# Altium integrated library Resistors.IntLib: 4954 symbols (part 10 of 32)
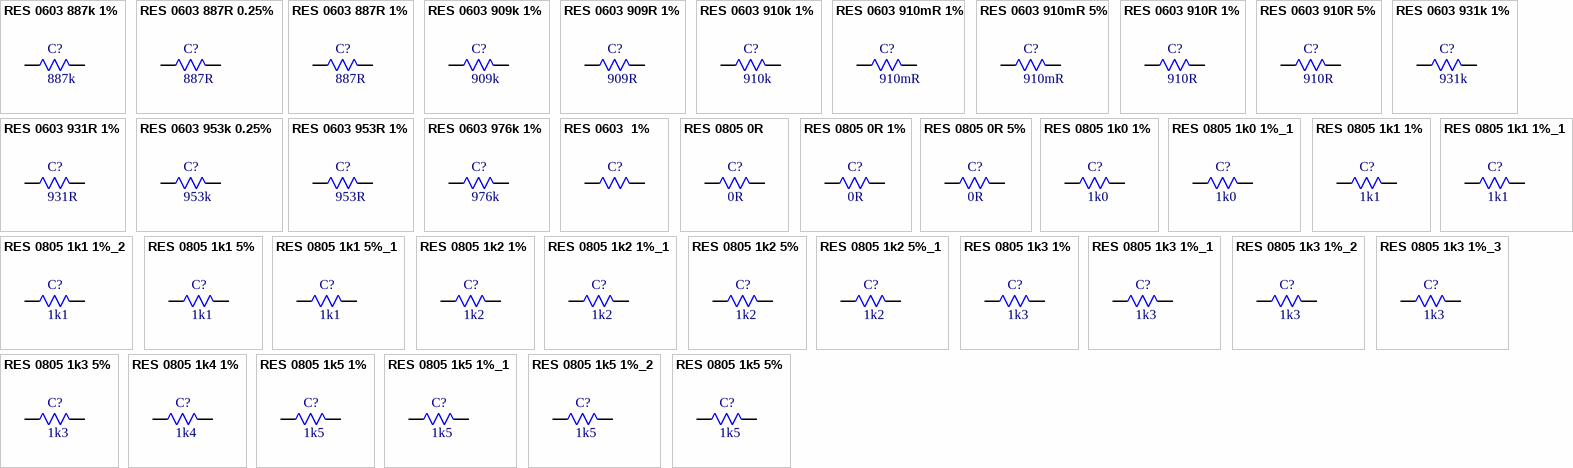
[diagram p132: symbols RES 0603 887k 1% to RES 0805 1k5 5%]

## RES 0805 1k5 1%
designator C?, comment 1k5
1.5kR 1% 125mW 0805 Thick Film Resistor; Manufacturer: FOJAN; Manufacturer Part Number: FRC0805F1501TS; Voltage Rating: 150V; Supplier: LCSC; Supplier Part Number: C2907216; Resistance: 1k5; Tolerance: 1%; Power: 125mW
footprint RES SMD 0805
pins: 1, 2

## RES 0805 1k5 1%_1
designator C?, comment 1k5
1.54kR 1% 125mW 0805 Thick Film Resistor; Manufacturer: FOJAN; Manufacturer Part Number: FRC0805F1541TS; Voltage Rating: 150V; Supplier: LCSC; Supplier Part Number: C2933326; Resistance: 1k5; Tolerance: 1%; Power: 125mW
footprint RES SMD 0805
pins: 1, 2

## RES 0805 1k5 1%_2
designator C?, comment 1k5
125mW 1.5kR Thick Film Resistor 1% 100ppm/â„ƒ 0805 Chip Resistor - Surface Mount RoHS; Manufacturer: FOJAN; Manufacturer Part Number: FRQ0805F1501TS; Supplier: LCSC; Supplier Part Number: C7468486; Resistance: 1k5; Tolerance: 1%; Power: 125mW
footprint RES SMD 0805
pins: 1, 2

## RES 0805 1k5 5%
designator C?, comment 1k5
1.5kR 5% 125mW 0805 Thick Film Resistor; Manufacturer: FOJAN; Manufacturer Part Number: FRC0805J152 TS; Voltage Rating: 150V; Supplier: LCSC; Supplier Part Number: C2907290; Resistance: 1k5; Tolerance: 5%; Power: 125mW
footprint RES SMD 0805
pins: 1, 2

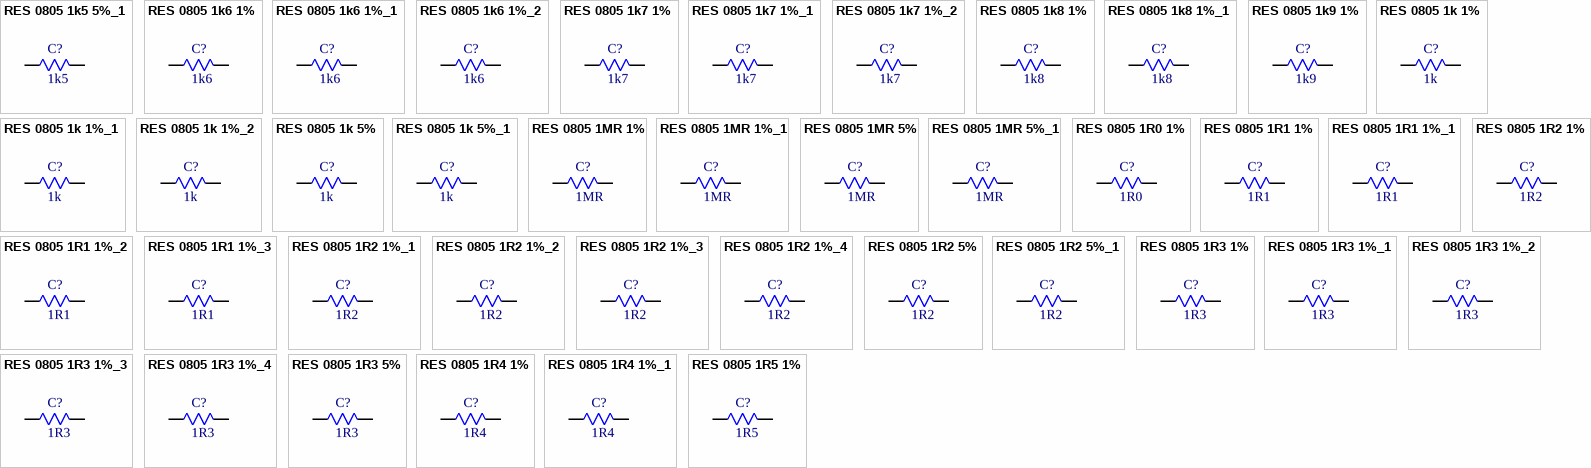
[diagram p36: symbols RES 0805 1k5 5%_1 to RES 0805 1R5 1%]

## RES 0805 1k5 5%_1
designator C?, comment 1k5
125mW 1.5kR 150V Thick Film Resistor 100ppm/â„ƒ 5% 0805 Chip Resistor - Surface Mount RoHS; Manufacturer: FOJAN; Manufacturer Part Number: FRR0805J152 TS; Supplier: LCSC; Supplier Part Number: C49196829; Resistance: 1k5; Tolerance: 5%; Voltage Rating: 150V; Power: 125mW
footprint RES SMD 0805
pins: 1, 2

## RES 0805 1k6 1%
designator C?, comment 1k6
1.6kR 1% 125mW 0805 Thick Film Resistor; Manufacturer: FOJAN; Manufacturer Part Number: FRC0805F1601TS; Voltage Rating: 150V; Supplier: LCSC; Supplier Part Number: C2933328; Resistance: 1k6; Tolerance: 1%; Power: 125mW
footprint RES SMD 0805
pins: 1, 2

## RES 0805 1k6 1%_1
designator C?, comment 1k6
1.62kR 1% 125mW 0805 Thick Film Resistor; Manufacturer: FOJAN; Manufacturer Part Number: FRC0805F1621TS; Voltage Rating: 150V; Supplier: LCSC; Supplier Part Number: C2933331; Resistance: 1k6; Tolerance: 1%; Power: 125mW
footprint RES SMD 0805
pins: 1, 2

## RES 0805 1k6 1%_2
designator C?, comment 1k6
1.65kR 1% 125mW 0805 Thick Film Resistor; Manufacturer: FOJAN; Manufacturer Part Number: FRC0805F1651TS; Voltage Rating: 150V; Supplier: LCSC; Supplier Part Number: C2933334; Resistance: 1k6; Tolerance: 1%; Power: 125mW
footprint RES SMD 0805
pins: 1, 2

## RES 0805 1k7 1%
designator C?, comment 1k7
125mW 1.74kR Thick Film Resistor 1% 100ppm/â„ƒ 0805 Chip Resistor - Surface Mount RoHS; Manufacturer: FOJAN; Manufacturer Part Number: FRQ0805F1741TS; Supplier: LCSC; Supplier Part Number: C7471243; Resistance: 1k7; Tolerance: 1%; Power: 125mW
footprint RES SMD 0805
pins: 1, 2

## RES 0805 1k7 1%_1
designator C?, comment 1k7
1.78kR 1% 125mW 0805 Thick Film Resistor; Manufacturer: FOJAN; Manufacturer Part Number: FRC0805F1781TS; Voltage Rating: 150V; Supplier: LCSC; Supplier Part Number: C2933341; Resistance: 1k7; Tolerance: 1%; Power: 125mW
footprint RES SMD 0805
pins: 1, 2

## RES 0805 1k7 1%_2
designator C?, comment 1k7
1.74kR 1% 125mW 0805 Thick Film Resistor; Manufacturer: FOJAN; Manufacturer Part Number: FRC0805F1741TS; Voltage Rating: 150V; Supplier: LCSC; Supplier Part Number: C2960893; Resistance: 1k7; Tolerance: 1%; Power: 125mW
footprint RES SMD 0805
pins: 1, 2

## RES 0805 1k8 1%
designator C?, comment 1k8
1.8kR 1% 125mW 0805 Thick Film Resistor; Manufacturer: FOJAN; Manufacturer Part Number: FRC0805F1801TS; Voltage Rating: 150V; Supplier: LCSC; Supplier Part Number: C2933345; Resistance: 1k8; Tolerance: 1%; Power: 125mW
footprint RES SMD 0805
pins: 1, 2

## RES 0805 1k8 1%_1
designator C?, comment 1k8
1.87kR 1% 125mW 0805 Thick Film Resistor; Manufacturer: FOJAN; Manufacturer Part Number: FRC0805F1871TS; Voltage Rating: 150V; Supplier: LCSC; Supplier Part Number: C2930162; Resistance: 1k8; Tolerance: 1%; Power: 125mW
footprint RES SMD 0805
pins: 1, 2

## RES 0805 1k9 1%
designator C?, comment 1k9
1.91kR 1% 125mW 0805 Thick Film Resistor; Manufacturer: FOJAN; Manufacturer Part Number: FRC0805F1911TS; Voltage Rating: 150V; Supplier: LCSC; Supplier Part Number: C2999452; Resistance: 1k9; Tolerance: 1%; Power: 125mW
footprint RES SMD 0805
pins: 1, 2

## RES 0805 1k 1%
designator C?, comment 1k
1kR 1% 125mW 0805 Thick Film Resistor; Manufacturer: FOJAN; Manufacturer Part Number: FRC0805F1001TS; Voltage Rating: 150V; Supplier: LCSC; Supplier Part Number: C2907232; Resistance: 1k; Tolerance: 1%; Power: 125mW
footprint RES SMD 0805
pins: 1, 2

## RES 0805 1k 1%_1
designator C?, comment 1k
125mW 1kR Thick Film Resistor 1% 100ppm/â„ƒ 0805 Chip Resistor - Surface Mount RoHS; Manufacturer: FOJAN; Manufacturer Part Number: FRQ0805F1001TS; Supplier: LCSC; Supplier Part Number: C7468508; Resistance: 1k; Tolerance: 1%; Power: 125mW
footprint RES SMD 0805
pins: 1, 2

## RES 0805 1k 1%_2
designator C?, comment 1k
125mW 1kR 150V Thick Film Resistor 100ppm/â„ƒ 1% 0805 Chip Resistor - Surface Mount RoHS; Manufacturer: FOJAN; Manufacturer Part Number: FRR0805F1001TS; Supplier: LCSC; Supplier Part Number: C49196821; Resistance: 1k; Tolerance: 1%; Voltage Rating: 150V; Power: 125mW
footprint RES SMD 0805
pins: 1, 2

## RES 0805 1k 5%
designator C?, comment 1k
125mW 1kR 150V Thick Film Resistor 100ppm/â„ƒ 5% 0805 Chip Resistor - Surface Mount RoHS; Manufacturer: FOJAN; Manufacturer Part Number: FRR0805J102 TS; Supplier: LCSC; Supplier Part Number: C49196827; Resistance: 1k; Tolerance: 5%; Voltage Rating: 150V; Power: 125mW
footprint RES SMD 0805
pins: 1, 2

## RES 0805 1k 5%_1
designator C?, comment 1k
1kR 5% 125mW 0805 Thick Film Resistor AEC-Q200; Manufacturer: FOJAN; Manufacturer Part Number: FRQ0805J102 TS; Voltage Rating: 150V; Supplier: LCSC; Supplier Part Number: C5713452; Resistance: 1k; Tolerance: 5%; Power: 125mW
footprint RES SMD 0805
pins: 1, 2

## RES 0805 1MR 1%
designator C?, comment 1MR
1MR 1% 125mW 0805 Thick Film Resistor; Manufacturer: FOJAN; Manufacturer Part Number: FRC0805F1004TS; Voltage Rating: 150V; Supplier: LCSC; Supplier Part Number: C2933280; Resistance: 1MR; Tolerance: 1%; Power: 125mW
footprint RES SMD 0805
pins: 1, 2

## RES 0805 1MR 1%_1
designator C?, comment 1MR
1MR 1% 125mW 0805 Thick Film Resistor; Manufacturer: FOJAN; Manufacturer Part Number: FRV0805F1004TS; Voltage Rating: 400V; Supplier: LCSC; Supplier Part Number: C5713479; Resistance: 1MR; Tolerance: 1%; Power: 125mW
footprint RES SMD 0805
pins: 1, 2

## RES 0805 1MR 5%
designator C?, comment 1MR
1MR 5% 125mW 0805 Thick Film Resistor; Manufacturer: FOJAN; Manufacturer Part Number: FRC0805J105 TS; Voltage Rating: 150V; Supplier: LCSC; Supplier Part Number: C2907302; Resistance: 1MR; Tolerance: 5%; Power: 125mW
footprint RES SMD 0805
pins: 1, 2

## RES 0805 1MR 5%_1
designator C?, comment 1MR
1MR 5% 125mW 0805 Thick Film Resistor AEC-Q200; Manufacturer: FOJAN; Manufacturer Part Number: FRQ0805J105 TS; Voltage Rating: 150V; Supplier: LCSC; Supplier Part Number: C2934403; Resistance: 1MR; Tolerance: 5%; Power: 125mW
footprint RES SMD 0805
pins: 1, 2

## RES 0805 1R0 1%
designator C?, comment 1R0
1.05R 1% 125mW 0805 Thick Film Resistor; Manufacturer: FOJAN; Manufacturer Part Number: FRC0805F1R05TS; Voltage Rating: 150V; Supplier: LCSC; Supplier Part Number: C3000726; Resistance: 1R0; Tolerance: 1%; Power: 125mW
footprint RES SMD 0805
pins: 1, 2

## RES 0805 1R1 1%
designator C?, comment 1R1
1.15MR 1% 125mW 0805 Thick Film Resistor; Manufacturer: FOJAN; Manufacturer Part Number: FRC0805F1154TS; Voltage Rating: 150V; Supplier: LCSC; Supplier Part Number: C5159713; Resistance: 1R1; Tolerance: 1%; Power: 125mW
footprint RES SMD 0805
pins: 1, 2

## RES 0805 1R1 1%_1
designator C?, comment 1R1
1.1R 1% 125mW 0805 Thick Film Resistor; Manufacturer: FOJAN; Manufacturer Part Number: FRC0805F1R10TS; Voltage Rating: 150V; Supplier: LCSC; Supplier Part Number: C2933354; Resistance: 1R1; Tolerance: 1%; Power: 125mW
footprint RES SMD 0805
pins: 1, 2

## RES 0805 1R1 1%_2
designator C?, comment 1R1
1.1MR 1% 125mW 0805 Thick Film Resistor; Manufacturer: FOJAN; Manufacturer Part Number: FRC0805F1104TS; Voltage Rating: 150V; Supplier: LCSC; Supplier Part Number: C2933287; Resistance: 1R1; Tolerance: 1%; Power: 125mW
footprint RES SMD 0805
pins: 1, 2

## RES 0805 1R1 1%_3
designator C?, comment 1R1
1.15R 1% 125mW 0805 Thick Film Resistor; Manufacturer: FOJAN; Manufacturer Part Number: FRC0805F1R15TS; Voltage Rating: 150V; Supplier: LCSC; Supplier Part Number: C2933355; Resistance: 1R1; Tolerance: 1%; Power: 125mW
footprint RES SMD 0805
pins: 1, 2

## RES 0805 1R2 1%
designator C?, comment 1R2
1.2MR 1% 125mW 0805 Thick Film Resistor; Manufacturer: FOJAN; Manufacturer Part Number: FRC0805F1204TS; Voltage Rating: 150V; Supplier: LCSC; Supplier Part Number: C2933294; Resistance: 1R2; Tolerance: 1%; Power: 125mW
footprint RES SMD 0805
pins: 1, 2

## RES 0805 1R2 1%_1
designator C?, comment 1R2
1.2R 1% 125mW 0805 Thick Film Resistor; Manufacturer: FOJAN; Manufacturer Part Number: FRC0805F1R20TS; Voltage Rating: 150V; Supplier: LCSC; Supplier Part Number: C2933356; Resistance: 1R2; Tolerance: 1%; Power: 125mW
footprint RES SMD 0805
pins: 1, 2

## RES 0805 1R2 1%_2
designator C?, comment 1R2
1.24R 1% 125mW 0805 Thick Film Resistor; Manufacturer: FOJAN; Manufacturer Part Number: FRC0805F1R24TS; Voltage Rating: 150V; Supplier: LCSC; Supplier Part Number: C2933357; Resistance: 1R2; Tolerance: 1%; Power: 125mW
footprint RES SMD 0805
pins: 1, 2

## RES 0805 1R2 1%_3
designator C?, comment 1R2
1.27MR 1% 125mW 0805 Thick Film Resistor; Manufacturer: FOJAN; Manufacturer Part Number: FRC0805F1274TS; Voltage Rating: 150V; Supplier: LCSC; Supplier Part Number: C2933301; Resistance: 1R2; Tolerance: 1%; Power: 125mW
footprint RES SMD 0805
pins: 1, 2

## RES 0805 1R2 1%_4
designator C?, comment 1R2
125mW 1.24MR 150V Thick Film Resistor 1% 0805 Chip Resistor - Surface Mount RoHS; Manufacturer: FOJAN; Manufacturer Part Number: FRC0805F1244TS; Supplier: LCSC; Supplier Part Number: C51048329; Resistance: 1R2; Tolerance: 1%; Voltage Rating: 150V; Power: 125mW
footprint RES SMD 0805
pins: 1, 2

## RES 0805 1R2 5%
designator C?, comment 1R2
1.2R 5% 125mW 0805 Thick Film Resistor; Manufacturer: FOJAN; Manufacturer Part Number: FRC0805J1R2TS; Voltage Rating: 150V; Supplier: LCSC; Supplier Part Number: C2930225; Resistance: 1R2; Tolerance: 5%; Power: 125mW
footprint RES SMD 0805
pins: 1, 2

## RES 0805 1R2 5%_1
designator C?, comment 1R2
1.2MR 5% 125mW 0805 Thick Film Resistor; Manufacturer: FOJAN; Manufacturer Part Number: FRC0805J125 TS; Voltage Rating: 150V; Supplier: LCSC; Supplier Part Number: C2933521; Resistance: 1R2; Tolerance: 5%; Power: 125mW
footprint RES SMD 0805
pins: 1, 2

## RES 0805 1R3 1%
designator C?, comment 1R3
1.3R 1% 125mW 0805 Thick Film Resistor; Manufacturer: FOJAN; Manufacturer Part Number: FRC0805F1R30TS; Voltage Rating: 150V; Supplier: LCSC; Supplier Part Number: C2933359; Resistance: 1R3; Tolerance: 1%; Power: 125mW
footprint RES SMD 0805
pins: 1, 2

## RES 0805 1R3 1%_1
designator C?, comment 1R3
1.33MR 1% 125mW 0805 Thick Film Resistor; Manufacturer: FOJAN; Manufacturer Part Number: FRC0805F1334TS; Voltage Rating: 150V; Supplier: LCSC; Supplier Part Number: C2933308; Resistance: 1R3; Tolerance: 1%; Power: 125mW
footprint RES SMD 0805
pins: 1, 2

## RES 0805 1R3 1%_2
designator C?, comment 1R3
1.3MR 1% 125mW 0805 Thick Film Resistor; Manufacturer: FOJAN; Manufacturer Part Number: FRC0805F1304TS; Voltage Rating: 150V; Supplier: LCSC; Supplier Part Number: C5159714; Resistance: 1R3; Tolerance: 1%; Power: 125mW
footprint RES SMD 0805
pins: 1, 2

## RES 0805 1R3 1%_3
designator C?, comment 1R3
1.37R 1% 125mW 0805 Thick Film Resistor; Manufacturer: FOJAN; Manufacturer Part Number: FRC0805F1R37TS; Voltage Rating: 150V; Supplier: LCSC; Supplier Part Number: C2960760; Resistance: 1R3; Tolerance: 1%; Power: 125mW
footprint RES SMD 0805
pins: 1, 2

## RES 0805 1R3 1%_4
designator C?, comment 1R3
1.37MR 1% 125mW 0805 Thick Film Resistor; Manufacturer: FOJAN; Manufacturer Part Number: FRC0805F1374TS; Voltage Rating: 150V; Supplier: LCSC; Supplier Part Number: C2933312; Resistance: 1R3; Tolerance: 1%; Power: 125mW
footprint RES SMD 0805
pins: 1, 2

## RES 0805 1R3 5%
designator C?, comment 1R3
1.3R 5% 125mW 0805 Thick Film Resistor; Manufacturer: FOJAN; Manufacturer Part Number: FRC0805J1R3TS; Voltage Rating: 150V; Supplier: LCSC; Supplier Part Number: C2930226; Resistance: 1R3; Tolerance: 5%; Power: 125mW
footprint RES SMD 0805
pins: 1, 2

## RES 0805 1R4 1%
designator C?, comment 1R4
1.4R 1% 125mW 0805 Thick Film Resistor; Manufacturer: FOJAN; Manufacturer Part Number: FRC0805F1R40TS; Voltage Rating: 150V; Supplier: LCSC; Supplier Part Number: C2933360; Resistance: 1R4; Tolerance: 1%; Power: 125mW
footprint RES SMD 0805
pins: 1, 2

## RES 0805 1R4 1%_1
designator C?, comment 1R4
1.47R 1% 125mW 0805 Thick Film Resistor; Manufacturer: FOJAN; Manufacturer Part Number: FRC0805F1R47TS; Voltage Rating: 150V; Supplier: LCSC; Supplier Part Number: C2974035; Resistance: 1R4; Tolerance: 1%; Power: 125mW
footprint RES SMD 0805
pins: 1, 2

## RES 0805 1R5 1%
designator C?, comment 1R5
1.5R 1% 125mW 0805 Thick Film Resistor; Manufacturer: FOJAN; Manufacturer Part Number: FRC0805F1R50TS; Voltage Rating: 150V; Supplier: LCSC; Supplier Part Number: C2960869; Resistance: 1R5; Tolerance: 1%; Power: 125mW
footprint RES SMD 0805
pins: 1, 2

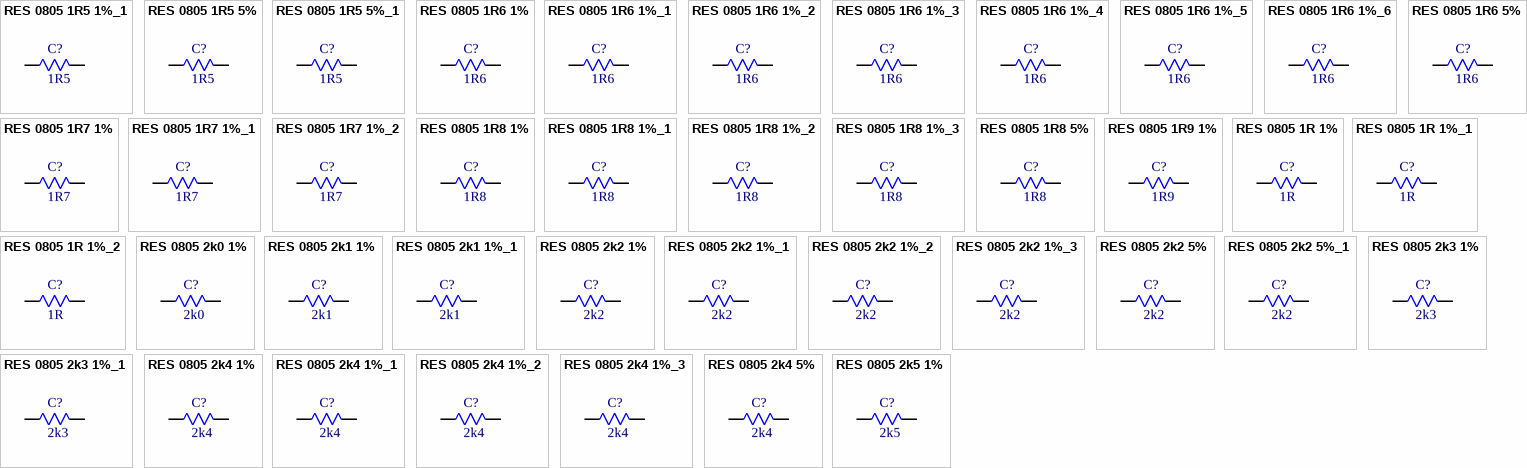
[diagram p37: symbols RES 0805 1R5 1%_1 to RES 0805 2k5 1%]

## RES 0805 1R5 1%_1
designator C?, comment 1R5
1.5MR 1% 125mW 0805 Thick Film Resistor; Manufacturer: FOJAN; Manufacturer Part Number: FRC0805F1504TS; Voltage Rating: 150V; Supplier: LCSC; Supplier Part Number: C2933325; Resistance: 1R5; Tolerance: 1%; Power: 125mW
footprint RES SMD 0805
pins: 1, 2

## RES 0805 1R5 5%
designator C?, comment 1R5
1.5R 5% 125mW 0805 Thick Film Resistor; Manufacturer: FOJAN; Manufacturer Part Number: FRC0805J1R5 TS; Voltage Rating: 150V; Supplier: LCSC; Supplier Part Number: C2907291; Resistance: 1R5; Tolerance: 5%; Power: 125mW
footprint RES SMD 0805
pins: 1, 2

## RES 0805 1R5 5%_1
designator C?, comment 1R5
1.5MR 5% 125mW 0805 Thick Film Resistor; Manufacturer: FOJAN; Manufacturer Part Number: FRC0805J155TS; Voltage Rating: 150V; Supplier: LCSC; Supplier Part Number: C2930227; Resistance: 1R5; Tolerance: 5%; Power: 125mW
footprint RES SMD 0805
pins: 1, 2

## RES 0805 1R6 1%
designator C?, comment 1R6
1.6R 1% 125mW 0805 Thick Film Resistor; Manufacturer: FOJAN; Manufacturer Part Number: FRC0805F1R60TS; Voltage Rating: 150V; Supplier: LCSC; Supplier Part Number: C2930329; Resistance: 1R6; Tolerance: 1%; Power: 125mW
footprint RES SMD 0805
pins: 1, 2

## RES 0805 1R6 1%_1
designator C?, comment 1R6
1.6MR 1% 125mW 0805 Thick Film Resistor; Manufacturer: FOJAN; Manufacturer Part Number: FRC0805F1604TS; Voltage Rating: 150V; Supplier: LCSC; Supplier Part Number: C5121530; Resistance: 1R6; Tolerance: 1%; Power: 125mW
footprint RES SMD 0805
pins: 1, 2

## RES 0805 1R6 1%_2
designator C?, comment 1R6
1.69R 1% 125mW 0805 Thick Film Resistor; Manufacturer: FOJAN; Manufacturer Part Number: FRC0805F1R69TS; Voltage Rating: 150V; Supplier: LCSC; Supplier Part Number: C2960693; Resistance: 1R6; Tolerance: 1%; Power: 125mW
footprint RES SMD 0805
pins: 1, 2

## RES 0805 1R6 1%_3
designator C?, comment 1R6
1.65MR 1% 125mW 0805 Thick Film Resistor; Manufacturer: FOJAN; Manufacturer Part Number: FRC0805F1654TS; Voltage Rating: 150V; Supplier: LCSC; Supplier Part Number: C42372159; Resistance: 1R6; Tolerance: 1%; Power: 125mW
footprint RES SMD 0805
pins: 1, 2

## RES 0805 1R6 1%_4
designator C?, comment 1R6
1.65R 1% 125mW 0805 Thick Film Resistor; Manufacturer: FOJAN; Manufacturer Part Number: FRC0805F1R65TS; Voltage Rating: 150V; Supplier: LCSC; Supplier Part Number: C2960764; Resistance: 1R6; Tolerance: 1%; Power: 125mW
footprint RES SMD 0805
pins: 1, 2

## RES 0805 1R6 1%_5
designator C?, comment 1R6
1.69MR 1% 125mW 0805 Thick Film Resistor; Manufacturer: FOJAN; Manufacturer Part Number: FRC0805F1694TS; Voltage Rating: 150V; Supplier: LCSC; Supplier Part Number: C2933338; Resistance: 1R6; Tolerance: 1%; Power: 125mW
footprint RES SMD 0805
pins: 1, 2

## RES 0805 1R6 1%_6
designator C?, comment 1R6
1.62R 1% 125mW 0805 Thick Film Resistor; Manufacturer: FOJAN; Manufacturer Part Number: FRC0805F1R62TS; Voltage Rating: 150V; Supplier: LCSC; Supplier Part Number: C5153979; Resistance: 1R6; Tolerance: 1%; Power: 125mW
footprint RES SMD 0805
pins: 1, 2

## RES 0805 1R6 5%
designator C?, comment 1R6
1.6R 5% 125mW 0805 Thick Film Resistor; Manufacturer: FOJAN; Manufacturer Part Number: FRC0805J1R6TS; Voltage Rating: 150V; Supplier: LCSC; Supplier Part Number: C2930229; Resistance: 1R6; Tolerance: 5%; Power: 125mW
footprint RES SMD 0805
pins: 1, 2

## RES 0805 1R7 1%
designator C?, comment 1R7
1.74MR 1% 125mW 0805 Thick Film Resistor; Manufacturer: FOJAN; Manufacturer Part Number: FRC0805F1744TS; Voltage Rating: 150V; Supplier: LCSC; Supplier Part Number: C5126134; Resistance: 1R7; Tolerance: 1%; Power: 125mW
footprint RES SMD 0805
pins: 1, 2

## RES 0805 1R7 1%_1
designator C?, comment 1R7
1.78R 1% 125mW 0805 Thick Film Resistor; Manufacturer: FOJAN; Manufacturer Part Number: FRC0805F1R78TS; Voltage Rating: 150V; Supplier: LCSC; Supplier Part Number: C2933362; Resistance: 1R7; Tolerance: 1%; Power: 125mW
footprint RES SMD 0805
pins: 1, 2

## RES 0805 1R7 1%_2
designator C?, comment 1R7
1.74R 1% 125mW 0805 Thick Film Resistor; Manufacturer: FOJAN; Manufacturer Part Number: FRC0805F1R74TS; Voltage Rating: 150V; Supplier: LCSC; Supplier Part Number: C2929894; Resistance: 1R7; Tolerance: 1%; Power: 125mW
footprint RES SMD 0805
pins: 1, 2

## RES 0805 1R8 1%
designator C?, comment 1R8
1.82R 1% 125mW 0805 Thick Film Resistor; Manufacturer: FOJAN; Manufacturer Part Number: FRC0805F1R82TS; Voltage Rating: 150V; Supplier: LCSC; Supplier Part Number: C3013214; Resistance: 1R8; Tolerance: 1%; Power: 125mW
footprint RES SMD 0805
pins: 1, 2

## RES 0805 1R8 1%_1
designator C?, comment 1R8
1.8MR 1% 125mW 0805 Thick Film Resistor; Manufacturer: FOJAN; Manufacturer Part Number: FRC0805F1804TS; Voltage Rating: 150V; Supplier: LCSC; Supplier Part Number: C2930213; Resistance: 1R8; Tolerance: 1%; Power: 125mW
footprint RES SMD 0805
pins: 1, 2

## RES 0805 1R8 1%_2
designator C?, comment 1R8
1.87R 1% 125mW 0805 Thick Film Resistor; Manufacturer: FOJAN; Manufacturer Part Number: FRC0805F1R87TS; Voltage Rating: 150V; Supplier: LCSC; Supplier Part Number: C2933364; Resistance: 1R8; Tolerance: 1%; Power: 125mW
footprint RES SMD 0805
pins: 1, 2

## RES 0805 1R8 1%_3
designator C?, comment 1R8
1.8R 1% 125mW 0805 Thick Film Resistor; Manufacturer: FOJAN; Manufacturer Part Number: FRC0805F1R80TS; Voltage Rating: 150V; Supplier: LCSC; Supplier Part Number: C2933363; Resistance: 1R8; Tolerance: 1%; Power: 125mW
footprint RES SMD 0805
pins: 1, 2

## RES 0805 1R8 5%
designator C?, comment 1R8
1.8R 5% 125mW 0805 Thick Film Resistor; Manufacturer: FOJAN; Manufacturer Part Number: FRC0805J1R8 TS; Voltage Rating: 150V; Supplier: LCSC; Supplier Part Number: C2933533; Resistance: 1R8; Tolerance: 5%; Power: 125mW
footprint RES SMD 0805
pins: 1, 2

## RES 0805 1R9 1%
designator C?, comment 1R9
1.96R 1% 125mW 0805 Thick Film Resistor; Manufacturer: FOJAN; Manufacturer Part Number: FRC0805F1R96TS; Voltage Rating: 150V; Supplier: LCSC; Supplier Part Number: C5126041; Resistance: 1R9; Tolerance: 1%; Power: 125mW
footprint RES SMD 0805
pins: 1, 2

## RES 0805 1R 1%
designator C?, comment 1R
1R 1% 125mW 0805 Thick Film Resistor; Manufacturer: FOJAN; Manufacturer Part Number: FRC0805F1R00TS; Voltage Rating: 150V; Supplier: LCSC; Supplier Part Number: C2907233; Resistance: 1R; Tolerance: 1%; Power: 125mW
footprint RES SMD 0805
pins: 1, 2

## RES 0805 1R 1%_1
designator C?, comment 1R
1R 250mW Thick Film Resistor 200ppm/â„ƒ 1% 0805 Chip Resistor - Surface Mount RoHS; Manufacturer: FOJAN; Manufacturer Part Number: FRP0805F1R00TS; Supplier: LCSC; Supplier Part Number: C7468366; Resistance: 1R; Tolerance: 1%; Power: 250mW
footprint RES SMD 0805
pins: 1, 2

## RES 0805 1R 1%_2
designator C?, comment 1R
1R 125mW 150V Thick Film Resistor 1% 200ppm/â„ƒ 0805 Chip Resistor - Surface Mount RoHS; Manufacturer: FOJAN; Manufacturer Part Number: FRR0805F1R00TS; Supplier: LCSC; Supplier Part Number: C49196822; Resistance: 1R; Tolerance: 1%; Voltage Rating: 150V; Power: 125mW
footprint RES SMD 0805
pins: 1, 2

## RES 0805 2k0 1%
designator C?, comment 2k0
2.05kR 1% 125mW 0805 Thick Film Resistor; Manufacturer: FOJAN; Manufacturer Part Number: FRC0805F2051TS; Voltage Rating: 150V; Supplier: LCSC; Supplier Part Number: C5121532; Resistance: 2k0; Tolerance: 1%; Power: 125mW
footprint RES SMD 0805
pins: 1, 2

## RES 0805 2k1 1%
designator C?, comment 2k1
2.1kR 1% 125mW 0805 Thick Film Resistor; Manufacturer: FOJAN; Manufacturer Part Number: FRC0805F2101TS; Voltage Rating: 150V; Supplier: LCSC; Supplier Part Number: C2960695; Resistance: 2k1; Tolerance: 1%; Power: 125mW
footprint RES SMD 0805
pins: 1, 2

## RES 0805 2k1 1%_1
designator C?, comment 2k1
2.15kR 1% 125mW 0805 Thick Film Resistor; Manufacturer: FOJAN; Manufacturer Part Number: FRC0805F2151TS; Voltage Rating: 150V; Supplier: LCSC; Supplier Part Number: C2933368; Resistance: 2k1; Tolerance: 1%; Power: 125mW
footprint RES SMD 0805
pins: 1, 2

## RES 0805 2k2 1%
designator C?, comment 2k2
2.2kR 1% 125mW 0805 Thick Film Resistor; Manufacturer: FOJAN; Manufacturer Part Number: FRC0805F2201TS; Voltage Rating: 150V; Supplier: LCSC; Supplier Part Number: C2907234; Resistance: 2k2; Tolerance: 1%; Power: 125mW
footprint RES SMD 0805
pins: 1, 2

## RES 0805 2k2 1%_1
designator C?, comment 2k2
125mW 2.2kR 150V Thick Film Resistor 1% 100ppm/â„ƒ 0805 Chip Resistor - Surface Mount RoHS; Manufacturer: FOJAN; Manufacturer Part Number: FRQ0805F2201TS; Supplier: LCSC; Supplier Part Number: C7471245; Resistance: 2k2; Tolerance: 1%; Voltage Rating: 150V; Power: 125mW
footprint RES SMD 0805
pins: 1, 2

## RES 0805 2k2 1%_2
designator C?, comment 2k2
2.26kR 1% 125mW 0805 Thick Film Resistor; Manufacturer: FOJAN; Manufacturer Part Number: FRC0805F2261TS; Voltage Rating: 150V; Supplier: LCSC; Supplier Part Number: C3000729; Resistance: 2k2; Tolerance: 1%; Power: 125mW
footprint RES SMD 0805
pins: 1, 2

## RES 0805 2k2 1%_3
designator C?, comment 2k2
2.21kR 1% 125mW 0805 Thick Film Resistor; Manufacturer: FOJAN; Manufacturer Part Number: FRC0805F2211TS; Voltage Rating: 150V; Supplier: LCSC; Supplier Part Number: C5121533; Resistance: 2k2; Tolerance: 1%; Power: 125mW
footprint RES SMD 0805
pins: 1, 2

## RES 0805 2k2 5%
designator C?, comment 2k2
2.2kR 5% 125mW 0805 Thick Film Resistor; Manufacturer: FOJAN; Manufacturer Part Number: FRC0805J222 TS; Voltage Rating: 150V; Supplier: LCSC; Supplier Part Number: C2907303; Resistance: 2k2; Tolerance: 5%; Power: 125mW
footprint RES SMD 0805
pins: 1, 2

## RES 0805 2k2 5%_1
designator C?, comment 2k2
2.2kR 5% 125mW 0805 Thick Film Resistor; Manufacturer: FOJAN; Manufacturer Part Number: FRD0805J222 TS; Voltage Rating: 150V; Supplier: LCSC; Supplier Part Number: C2934154; Resistance: 2k2; Tolerance: 5%; Power: 125mW
footprint RES SMD 0805
pins: 1, 2

## RES 0805 2k3 1%
designator C?, comment 2k3
2.37kR 1% 125mW 0805 Thick Film Resistor; Manufacturer: FOJAN; Manufacturer Part Number: FRC0805F2371TS; Voltage Rating: 150V; Supplier: LCSC; Supplier Part Number: C5126005; Resistance: 2k3; Tolerance: 1%; Power: 125mW
footprint RES SMD 0805
pins: 1, 2

## RES 0805 2k3 1%_1
designator C?, comment 2k3
2.32kR 1% 125mW 0805 Thick Film Resistor; Manufacturer: FOJAN; Manufacturer Part Number: FRC0805F2321TS; Voltage Rating: 150V; Supplier: LCSC; Supplier Part Number: C2933374; Resistance: 2k3; Tolerance: 1%; Power: 125mW
footprint RES SMD 0805
pins: 1, 2

## RES 0805 2k4 1%
designator C?, comment 2k4
2.4kR 1% 125mW 0805 Thick Film Resistor; Manufacturer: FOJAN; Manufacturer Part Number: FRC0805F2401TS; Voltage Rating: 150V; Supplier: LCSC; Supplier Part Number: C2907235; Resistance: 2k4; Tolerance: 1%; Power: 125mW
footprint RES SMD 0805
pins: 1, 2

## RES 0805 2k4 1%_1
designator C?, comment 2k4
2.49kR 1% 125mW 0805 Thick Film Resistor; Manufacturer: FOJAN; Manufacturer Part Number: FRC0805F2491TS; Voltage Rating: 150V; Supplier: LCSC; Supplier Part Number: C2930178; Resistance: 2k4; Tolerance: 1%; Power: 125mW
footprint RES SMD 0805
pins: 1, 2

## RES 0805 2k4 1%_2
designator C?, comment 2k4
2.43kR 1% 125mW 0805 Thick Film Resistor; Manufacturer: FOJAN; Manufacturer Part Number: FRC0805F2431TS; Voltage Rating: 150V; Supplier: LCSC; Supplier Part Number: C2933377; Resistance: 2k4; Tolerance: 1%; Power: 125mW
footprint RES SMD 0805
pins: 1, 2

## RES 0805 2k4 1%_3
designator C?, comment 2k4
125mW 2.4kR Thick Film Resistor 1% 100ppm/â„ƒ 0805 Chip Resistor - Surface Mount RoHS; Manufacturer: FOJAN; Manufacturer Part Number: FRQ0805F2401TS; Supplier: LCSC; Supplier Part Number: C7468581; Resistance: 2k4; Tolerance: 1%; Power: 125mW
footprint RES SMD 0805
pins: 1, 2

## RES 0805 2k4 5%
designator C?, comment 2k4
2.4kR 5% 125mW 0805 Thick Film Resistor; Manufacturer: FOJAN; Manufacturer Part Number: FRD0805J242 TS; Voltage Rating: 150V; Supplier: LCSC; Supplier Part Number: C2934157; Resistance: 2k4; Tolerance: 5%; Power: 125mW
footprint RES SMD 0805
pins: 1, 2

## RES 0805 2k5 1%
designator C?, comment 2k5
2.5kR 1% 125mW 0805 Thick Film Resistor AEC-Q200; Manufacturer: FOJAN; Manufacturer Part Number: FRQ0805F2501TS; Voltage Rating: 150V; Supplier: LCSC; Supplier Part Number: C5713447; Resistance: 2k5; Tolerance: 1%; Power: 125mW
footprint RES SMD 0805
pins: 1, 2

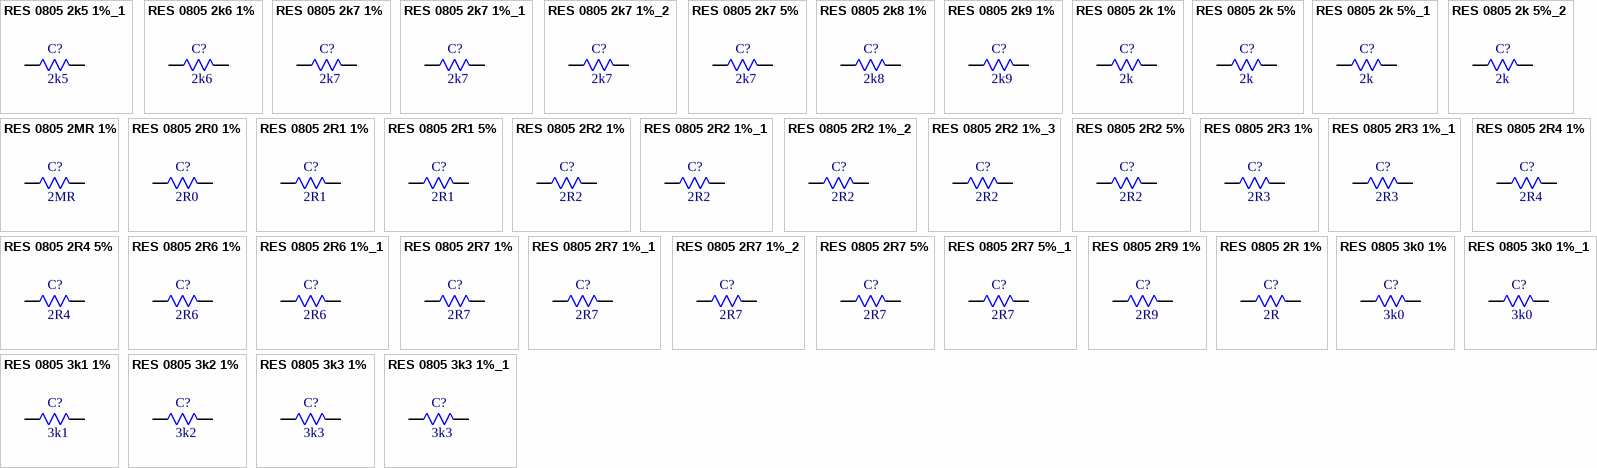
[diagram p38: symbols RES 0805 2k5 1%_1 to RES 0805 3k3 1%_1]

## RES 0805 2k5 1%_1
designator C?, comment 2k5
2.55kR 1% 125mW 0805 Thick Film Resistor; Manufacturer: FOJAN; Manufacturer Part Number: FRC0805F2551TS; Voltage Rating: 150V; Supplier: LCSC; Supplier Part Number: C2933383; Resistance: 2k5; Tolerance: 1%; Power: 125mW
footprint RES SMD 0805
pins: 1, 2

## RES 0805 2k6 1%
designator C?, comment 2k6
2.61kR 1% 125mW 0805 Thick Film Resistor; Manufacturer: FOJAN; Manufacturer Part Number: FRC0805F2611TS; Voltage Rating: 150V; Supplier: LCSC; Supplier Part Number: C2930179; Resistance: 2k6; Tolerance: 1%; Power: 125mW
footprint RES SMD 0805
pins: 1, 2

## RES 0805 2k7 1%
designator C?, comment 2k7
2.7kR 1% 125mW 0805 Thick Film Resistor; Manufacturer: FOJAN; Manufacturer Part Number: FRC0805F2701TS; Voltage Rating: 150V; Supplier: LCSC; Supplier Part Number: C2907236; Resistance: 2k7; Tolerance: 1%; Power: 125mW
footprint RES SMD 0805
pins: 1, 2

## RES 0805 2k7 1%_1
designator C?, comment 2k7
2.74kR 1% 125mW 0805 Thick Film Resistor; Manufacturer: FOJAN; Manufacturer Part Number: FRC0805F2741TS; Voltage Rating: 150V; Supplier: LCSC; Supplier Part Number: C2933391; Resistance: 2k7; Tolerance: 1%; Power: 125mW
footprint RES SMD 0805
pins: 1, 2

## RES 0805 2k7 1%_2
designator C?, comment 2k7
125mW 2.7kR Thick Film Resistor 1% 100ppm/â„ƒ 0805 Chip Resistor - Surface Mount RoHS; Manufacturer: FOJAN; Manufacturer Part Number: FRQ0805F2701TS; Supplier: LCSC; Supplier Part Number: C7468555; Resistance: 2k7; Tolerance: 1%; Power: 125mW
footprint RES SMD 0805
pins: 1, 2

## RES 0805 2k7 5%
designator C?, comment 2k7
2.7kR 5% 125mW 0805 Thick Film Resistor; Manufacturer: FOJAN; Manufacturer Part Number: FRC0805J272 TS; Voltage Rating: 150V; Supplier: LCSC; Supplier Part Number: C2907305; Resistance: 2k7; Tolerance: 5%; Power: 125mW
footprint RES SMD 0805
pins: 1, 2

## RES 0805 2k8 1%
designator C?, comment 2k8
2.8kR 1% 125mW 0805 Thick Film Resistor; Manufacturer: FOJAN; Manufacturer Part Number: FRC0805F2801TS; Voltage Rating: 150V; Supplier: LCSC; Supplier Part Number: C2933394; Resistance: 2k8; Tolerance: 1%; Power: 125mW
footprint RES SMD 0805
pins: 1, 2

## RES 0805 2k9 1%
designator C?, comment 2k9
2.94kR 1% 125mW 0805 Thick Film Resistor; Manufacturer: FOJAN; Manufacturer Part Number: FRC0805F2941TS; Voltage Rating: 150V; Supplier: LCSC; Supplier Part Number: C2933397; Resistance: 2k9; Tolerance: 1%; Power: 125mW
footprint RES SMD 0805
pins: 1, 2

## RES 0805 2k 1%
designator C?, comment 2k
2kR 1% 125mW 0805 Thick Film Resistor; Manufacturer: FOJAN; Manufacturer Part Number: FRC0805F2001TS; Voltage Rating: 150V; Supplier: LCSC; Supplier Part Number: C2907248; Resistance: 2k; Tolerance: 1%; Power: 125mW
footprint RES SMD 0805
pins: 1, 2

## RES 0805 2k 5%
designator C?, comment 2k
2kR 5% 125mW 0805 Thick Film Resistor; Manufacturer: FOJAN; Manufacturer Part Number: FRC0805J202 TS; Voltage Rating: 150V; Supplier: LCSC; Supplier Part Number: C2907315; Resistance: 2k; Tolerance: 5%; Power: 125mW
footprint RES SMD 0805
pins: 1, 2

## RES 0805 2k 5%_1
designator C?, comment 2k
2kR 125mW Thick Film Resistor 5% 100ppm/â„ƒ 0805 Chip Resistor - Surface Mount RoHS; Manufacturer: FOJAN; Manufacturer Part Number: FRQ0805J202 TS; Supplier: LCSC; Supplier Part Number: C7468405; Resistance: 2k; Tolerance: 5%; Power: 125mW
footprint RES SMD 0805
pins: 1, 2

## RES 0805 2k 5%_2
designator C?, comment 2k
2kR 250mW 150V Thick Film Resistor 5% 0805 Chip Resistor - Surface Mount RoHS; Manufacturer: FOJAN; Manufacturer Part Number: FRP0805J202 TS; Supplier: LCSC; Supplier Part Number: C52033553; Resistance: 2k; Tolerance: 5%; Voltage Rating: 150V; Power: 250mW
footprint RES SMD 0805
pins: 1, 2

## RES 0805 2MR 1%
designator C?, comment 2MR
2MR 1% 125mW 0805 Thick Film Resistor; Manufacturer: FOJAN; Manufacturer Part Number: FRC0805F2004TS; Voltage Rating: 150V; Supplier: LCSC; Supplier Part Number: C2930332; Resistance: 2MR; Tolerance: 1%; Power: 125mW
footprint RES SMD 0805
pins: 1, 2

## RES 0805 2R0 1%
designator C?, comment 2R0
2.05R 1% 125mW 0805 Thick Film Resistor; Manufacturer: FOJAN; Manufacturer Part Number: FRC0805F2R05TS; Voltage Rating: 150V; Supplier: LCSC; Supplier Part Number: C2933399; Resistance: 2R0; Tolerance: 1%; Power: 125mW
footprint RES SMD 0805
pins: 1, 2

## RES 0805 2R1 1%
designator C?, comment 2R1
2.15R 1% 125mW 0805 Thick Film Resistor; Manufacturer: FOJAN; Manufacturer Part Number: FRC0805F2R15TS; Voltage Rating: 150V; Supplier: LCSC; Supplier Part Number: C2933401; Resistance: 2R1; Tolerance: 1%; Power: 125mW
footprint RES SMD 0805
pins: 1, 2

## RES 0805 2R1 5%
designator C?, comment 2R1
2.1R 5% 125mW 0805 Thick Film Resistor; Manufacturer: FOJAN; Manufacturer Part Number: FRC0805J2R1 TS; Voltage Rating: 150V; Supplier: LCSC; Supplier Part Number: C2933541; Resistance: 2R1; Tolerance: 5%; Power: 125mW
footprint RES SMD 0805
pins: 1, 2

## RES 0805 2R2 1%
designator C?, comment 2R2
2.2R 1% 125mW 0805 Thick Film Resistor; Manufacturer: FOJAN; Manufacturer Part Number: FRC0805F2R20TS; Voltage Rating: 150V; Supplier: LCSC; Supplier Part Number: C2933402; Resistance: 2R2; Tolerance: 1%; Power: 125mW
footprint RES SMD 0805
pins: 1, 2

## RES 0805 2R2 1%_1
designator C?, comment 2R2
125mW 2.2MR 400V Thick Film Resistor 1% 0805 Chip Resistor - Surface Mount RoHS; Manufacturer: FOJAN; Manufacturer Part Number: FRV0805F2204TS; Supplier: LCSC; Supplier Part Number: C52033565; Resistance: 2R2; Tolerance: 1%; Voltage Rating: 400V; Power: 125mW
footprint RES SMD 0805
pins: 1, 2

## RES 0805 2R2 1%_2
designator C?, comment 2R2
2.26R 1% 125mW 0805 Thick Film Resistor; Manufacturer: FOJAN; Manufacturer Part Number: FRC0805F2R26TS; Voltage Rating: 150V; Supplier: LCSC; Supplier Part Number: C2933403; Resistance: 2R2; Tolerance: 1%; Power: 125mW
footprint RES SMD 0805
pins: 1, 2

## RES 0805 2R2 1%_3
designator C?, comment 2R2
2.2MR 1% 125mW 0805 Thick Film Resistor; Manufacturer: FOJAN; Manufacturer Part Number: FRC0805F2204TS; Voltage Rating: 150V; Supplier: LCSC; Supplier Part Number: C2933370; Resistance: 2R2; Tolerance: 1%; Power: 125mW
footprint RES SMD 0805
pins: 1, 2

## RES 0805 2R2 5%
designator C?, comment 2R2
2.2MR 5% 125mW 0805 Thick Film Resistor; Manufacturer: FOJAN; Manufacturer Part Number: FRC0805J225 TS; Voltage Rating: 150V; Supplier: LCSC; Supplier Part Number: C2933539; Resistance: 2R2; Tolerance: 5%; Power: 125mW
footprint RES SMD 0805
pins: 1, 2

## RES 0805 2R3 1%
designator C?, comment 2R3
125mW 2.32MR 150V Thick Film Resistor 1% 0805 Chip Resistor - Surface Mount RoHS; Manufacturer: FOJAN; Manufacturer Part Number: FRC0805F2324TS; Supplier: LCSC; Supplier Part Number: C51048262; Resistance: 2R3; Tolerance: 1%; Voltage Rating: 150V; Power: 125mW
footprint RES SMD 0805
pins: 1, 2

## RES 0805 2R3 1%_1
designator C?, comment 2R3
2.32R 1% 125mW 0805 Thick Film Resistor; Manufacturer: FOJAN; Manufacturer Part Number: FRC0805F2R32TS; Voltage Rating: 150V; Supplier: LCSC; Supplier Part Number: C2933404; Resistance: 2R3; Tolerance: 1%; Power: 125mW
footprint RES SMD 0805
pins: 1, 2

## RES 0805 2R4 1%
designator C?, comment 2R4
2.43R 1% 125mW 0805 Thick Film Resistor; Manufacturer: FOJAN; Manufacturer Part Number: FRC0805F2R43TS; Voltage Rating: 150V; Supplier: LCSC; Supplier Part Number: C2933405; Resistance: 2R4; Tolerance: 1%; Power: 125mW
footprint RES SMD 0805
pins: 1, 2

## RES 0805 2R4 5%
designator C?, comment 2R4
2.4MR 5% 125mW 0805 Thick Film Resistor; Manufacturer: FOJAN; Manufacturer Part Number: FRC0805J245TS; Voltage Rating: 150V; Supplier: LCSC; Supplier Part Number: C2930255; Resistance: 2R4; Tolerance: 5%; Power: 125mW
footprint RES SMD 0805
pins: 1, 2

## RES 0805 2R6 1%
designator C?, comment 2R6
2.61R 1% 125mW 0805 Thick Film Resistor; Manufacturer: FOJAN; Manufacturer Part Number: FRC0805F2R61TS; Voltage Rating: 150V; Supplier: LCSC; Supplier Part Number: C2933408; Resistance: 2R6; Tolerance: 1%; Power: 125mW
footprint RES SMD 0805
pins: 1, 2

## RES 0805 2R6 1%_1
designator C?, comment 2R6
2.67R 1% 125mW 0805 Thick Film Resistor; Manufacturer: FOJAN; Manufacturer Part Number: FRC0805F2R67TS; Voltage Rating: 150V; Supplier: LCSC; Supplier Part Number: C3013216; Resistance: 2R6; Tolerance: 1%; Power: 125mW
footprint RES SMD 0805
pins: 1, 2

## RES 0805 2R7 1%
designator C?, comment 2R7
2.7MR 1% 125mW 0805 Thick Film Resistor; Manufacturer: FOJAN; Manufacturer Part Number: FRC0805F2704TS; Voltage Rating: 150V; Supplier: LCSC; Supplier Part Number: C2933390; Resistance: 2R7; Tolerance: 1%; Power: 125mW
footprint RES SMD 0805
pins: 1, 2

## RES 0805 2R7 1%_1
designator C?, comment 2R7
2.7R 1% 125mW 0805 Thick Film Resistor; Manufacturer: FOJAN; Manufacturer Part Number: FRC0805F2R70TS; Voltage Rating: 150V; Supplier: LCSC; Supplier Part Number: C2907237; Resistance: 2R7; Tolerance: 1%; Power: 125mW
footprint RES SMD 0805
pins: 1, 2

## RES 0805 2R7 1%_2
designator C?, comment 2R7
2.74MR 1% 125mW 0805 Thick Film Resistor; Manufacturer: FOJAN; Manufacturer Part Number: FRC0805F2744TS; Voltage Rating: 150V; Supplier: LCSC; Supplier Part Number: C42372160; Resistance: 2R7; Tolerance: 1%; Power: 125mW
footprint RES SMD 0805
pins: 1, 2

## RES 0805 2R7 5%
designator C?, comment 2R7
2.7R 5% 125mW 0805 Thick Film Resistor; Manufacturer: FOJAN; Manufacturer Part Number: FRC0805J2R7 TS; Voltage Rating: 150V; Supplier: LCSC; Supplier Part Number: C2933542; Resistance: 2R7; Tolerance: 5%; Power: 125mW
footprint RES SMD 0805
pins: 1, 2

## RES 0805 2R7 5%_1
designator C?, comment 2R7
2.7MR 5% 125mW 0805 Thick Film Resistor; Manufacturer: FOJAN; Manufacturer Part Number: FRC0805J275 TS; Voltage Rating: 150V; Supplier: LCSC; Supplier Part Number: C2933540; Resistance: 2R7; Tolerance: 5%; Power: 125mW
footprint RES SMD 0805
pins: 1, 2

## RES 0805 2R9 1%
designator C?, comment 2R9
2.94R 1% 125mW 0805 Thick Film Resistor; Manufacturer: FOJAN; Manufacturer Part Number: FRC0805F2R94TS; Voltage Rating: 150V; Supplier: LCSC; Supplier Part Number: C5126042; Resistance: 2R9; Tolerance: 1%; Power: 125mW
footprint RES SMD 0805
pins: 1, 2

## RES 0805 2R 1%
designator C?, comment 2R
2R 1% 125mW 0805 Thick Film Resistor; Manufacturer: FOJAN; Manufacturer Part Number: FRC0805F2R00TS; Voltage Rating: 150V; Supplier: LCSC; Supplier Part Number: C2933398; Resistance: 2R; Tolerance: 1%; Power: 125mW
footprint RES SMD 0805
pins: 1, 2

## RES 0805 3k0 1%
designator C?, comment 3k0
3.01kR 1% 125mW 0805 Thick Film Resistor; Manufacturer: FOJAN; Manufacturer Part Number: FRC0805F3011TS; Voltage Rating: 150V; Supplier: LCSC; Supplier Part Number: C2999485; Resistance: 3k0; Tolerance: 1%; Power: 125mW
footprint RES SMD 0805
pins: 1, 2

## RES 0805 3k0 1%_1
designator C?, comment 3k0
3.09kR 1% 125mW 0805 Thick Film Resistor; Manufacturer: FOJAN; Manufacturer Part Number: FRC0805F3091TS; Voltage Rating: 150V; Supplier: LCSC; Supplier Part Number: C5121539; Resistance: 3k0; Tolerance: 1%; Power: 125mW
footprint RES SMD 0805
pins: 1, 2

## RES 0805 3k1 1%
designator C?, comment 3k1
3.16kR 1% 125mW 0805 Thick Film Resistor; Manufacturer: FOJAN; Manufacturer Part Number: FRC0805F3161TS; Voltage Rating: 150V; Supplier: LCSC; Supplier Part Number: C2933413; Resistance: 3k1; Tolerance: 1%; Power: 125mW
footprint RES SMD 0805
pins: 1, 2

## RES 0805 3k2 1%
designator C?, comment 3k2
3.24kR 1% 125mW 0805 Thick Film Resistor; Manufacturer: FOJAN; Manufacturer Part Number: FRC0805F3241TS; Voltage Rating: 150V; Supplier: LCSC; Supplier Part Number: C2933414; Resistance: 3k2; Tolerance: 1%; Power: 125mW
footprint RES SMD 0805
pins: 1, 2

## RES 0805 3k3 1%
designator C?, comment 3k3
3.3kR 1% 125mW 0805 Thick Film Resistor; Manufacturer: FOJAN; Manufacturer Part Number: FRC0805F3301TS; Voltage Rating: 150V; Supplier: LCSC; Supplier Part Number: C2907249; Resistance: 3k3; Tolerance: 1%; Power: 125mW
footprint RES SMD 0805
pins: 1, 2

## RES 0805 3k3 1%_1
designator C?, comment 3k3
3.32kR 1% 125mW 0805 Thick Film Resistor; Manufacturer: FOJAN; Manufacturer Part Number: FRC0805F3321TS; Voltage Rating: 150V; Supplier: LCSC; Supplier Part Number: C2933417; Resistance: 3k3; Tolerance: 1%; Power: 125mW
footprint RES SMD 0805
pins: 1, 2

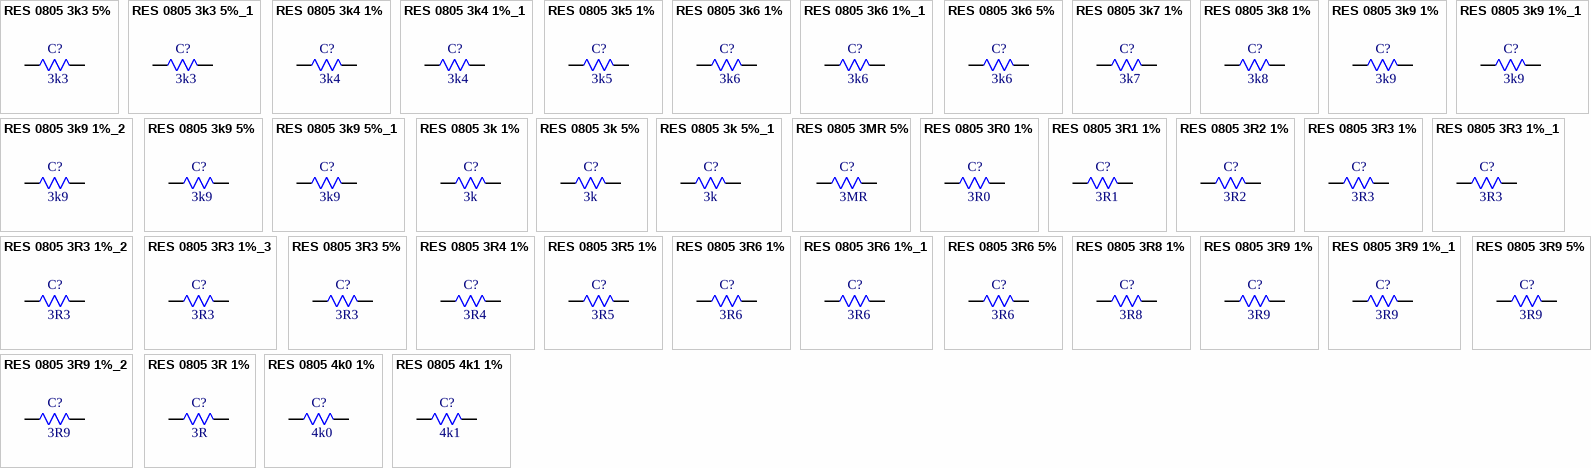
[diagram p39: symbols RES 0805 3k3 5% to RES 0805 4k1 1%]

## RES 0805 3k3 5%
designator C?, comment 3k3
3.3kR 5% 125mW 0805 Thick Film Resistor; Manufacturer: FOJAN; Manufacturer Part Number: FRC0805J332TS; Voltage Rating: 150V; Supplier: LCSC; Supplier Part Number: C2930266; Resistance: 3k3; Tolerance: 5%; Power: 125mW
footprint RES SMD 0805
pins: 1, 2

## RES 0805 3k3 5%_1
designator C?, comment 3k3
3.3kR 5% 125mW 0805 Thick Film Resistor; Manufacturer: FOJAN; Manufacturer Part Number: FRD0805J332 TS; Voltage Rating: 150V; Supplier: LCSC; Supplier Part Number: C2934163; Resistance: 3k3; Tolerance: 5%; Power: 125mW
footprint RES SMD 0805
pins: 1, 2

## RES 0805 3k4 1%
designator C?, comment 3k4
3.4kR 1% 125mW 0805 Thick Film Resistor; Manufacturer: FOJAN; Manufacturer Part Number: FRC0805F3401TS; Voltage Rating: 150V; Supplier: LCSC; Supplier Part Number: C2933419; Resistance: 3k4; Tolerance: 1%; Power: 125mW
footprint RES SMD 0805
pins: 1, 2

## RES 0805 3k4 1%_1
designator C?, comment 3k4
3.48kR 1% 125mW 0805 Thick Film Resistor; Manufacturer: FOJAN; Manufacturer Part Number: FRC0805F3481TS; Voltage Rating: 150V; Supplier: LCSC; Supplier Part Number: C2933422; Resistance: 3k4; Tolerance: 1%; Power: 125mW
footprint RES SMD 0805
pins: 1, 2

## RES 0805 3k5 1%
designator C?, comment 3k5
3.57kR 1% 125mW 0805 Thick Film Resistor; Manufacturer: FOJAN; Manufacturer Part Number: FRC0805F3571TS; Voltage Rating: 150V; Supplier: LCSC; Supplier Part Number: C2933425; Resistance: 3k5; Tolerance: 1%; Power: 125mW
footprint RES SMD 0805
pins: 1, 2

## RES 0805 3k6 1%
designator C?, comment 3k6
3.6kR 1% 125mW 0805 Thick Film Resistor; Manufacturer: FOJAN; Manufacturer Part Number: FRC0805F3601TS; Voltage Rating: 150V; Supplier: LCSC; Supplier Part Number: C2907251; Resistance: 3k6; Tolerance: 1%; Power: 125mW
footprint RES SMD 0805
pins: 1, 2

## RES 0805 3k6 1%_1
designator C?, comment 3k6
3.65kR 1% 125mW 0805 Thick Film Resistor; Manufacturer: FOJAN; Manufacturer Part Number: FRC0805F3651TS; Voltage Rating: 150V; Supplier: LCSC; Supplier Part Number: C2930192; Resistance: 3k6; Tolerance: 1%; Power: 125mW
footprint RES SMD 0805
pins: 1, 2

## RES 0805 3k6 5%
designator C?, comment 3k6
3.6kR 5% 125mW 0805 Thick Film Resistor; Manufacturer: FOJAN; Manufacturer Part Number: FRC0805J362TS; Voltage Rating: 150V; Supplier: LCSC; Supplier Part Number: C2930267; Resistance: 3k6; Tolerance: 5%; Power: 125mW
footprint RES SMD 0805
pins: 1, 2

## RES 0805 3k7 1%
designator C?, comment 3k7
3.74kR 1% 125mW 0805 Thick Film Resistor; Manufacturer: FOJAN; Manufacturer Part Number: FRC0805F3741TS; Voltage Rating: 150V; Supplier: LCSC; Supplier Part Number: C2960937; Resistance: 3k7; Tolerance: 1%; Power: 125mW
footprint RES SMD 0805
pins: 1, 2

## RES 0805 3k8 1%
designator C?, comment 3k8
3.83kR 1% 125mW 0805 Thick Film Resistor; Manufacturer: FOJAN; Manufacturer Part Number: FRC0805F3831TS; Voltage Rating: 150V; Supplier: LCSC; Supplier Part Number: C2933428; Resistance: 3k8; Tolerance: 1%; Power: 125mW
footprint RES SMD 0805
pins: 1, 2

## RES 0805 3k9 1%
designator C?, comment 3k9
3.9kR 1% 125mW 0805 Thick Film Resistor; Manufacturer: FOJAN; Manufacturer Part Number: FRC0805F3901TS; Voltage Rating: 150V; Supplier: LCSC; Supplier Part Number: C2907252; Resistance: 3k9; Tolerance: 1%; Power: 125mW
footprint RES SMD 0805
pins: 1, 2

## RES 0805 3k9 1%_1
designator C?, comment 3k9
3.92kR 1% 125mW 0805 Thick Film Resistor; Manufacturer: FOJAN; Manufacturer Part Number: FRC0805F3921TS; Voltage Rating: 150V; Supplier: LCSC; Supplier Part Number: C2999632; Resistance: 3k9; Tolerance: 1%; Power: 125mW
footprint RES SMD 0805
pins: 1, 2

## RES 0805 3k9 1%_2
designator C?, comment 3k9
125mW 3.9kR Thick Film Resistor 1% 100ppm/â„ƒ 0805 Chip Resistor - Surface Mount RoHS; Manufacturer: FOJAN; Manufacturer Part Number: FRQ0805F3901TS; Supplier: LCSC; Supplier Part Number: C7468564; Resistance: 3k9; Tolerance: 1%; Power: 125mW
footprint RES SMD 0805
pins: 1, 2

## RES 0805 3k9 5%
designator C?, comment 3k9
3.9kR 5% 125mW 0805 Thick Film Resistor; Manufacturer: FOJAN; Manufacturer Part Number: FRC0805J392TS; Voltage Rating: 150V; Supplier: LCSC; Supplier Part Number: C2930268; Resistance: 3k9; Tolerance: 5%; Power: 125mW
footprint RES SMD 0805
pins: 1, 2

## RES 0805 3k9 5%_1
designator C?, comment 3k9
3.9kR 5% 125mW 0805 Thick Film Resistor; Manufacturer: FOJAN; Manufacturer Part Number: FRD0805J392 TS; Voltage Rating: 150V; Supplier: LCSC; Supplier Part Number: C2934165; Resistance: 3k9; Tolerance: 5%; Power: 125mW
footprint RES SMD 0805
pins: 1, 2

## RES 0805 3k 1%
designator C?, comment 3k
3kR 1% 125mW 0805 Thick Film Resistor; Manufacturer: FOJAN; Manufacturer Part Number: FRC0805F3001TS; Voltage Rating: 150V; Supplier: LCSC; Supplier Part Number: C2907263; Resistance: 3k; Tolerance: 1%; Power: 125mW
footprint RES SMD 0805
pins: 1, 2

## RES 0805 3k 5%
designator C?, comment 3k
3kR 5% 125mW 0805 Thick Film Resistor; Manufacturer: FOJAN; Manufacturer Part Number: FRC0805J302 TS; Voltage Rating: 150V; Supplier: LCSC; Supplier Part Number: C2907324; Resistance: 3k; Tolerance: 5%; Power: 125mW
footprint RES SMD 0805
pins: 1, 2

## RES 0805 3k 5%_1
designator C?, comment 3k
125mW 3kR Thick Film Resistor 5% 100ppm/â„ƒ 0805 Chip Resistor - Surface Mount RoHS; Manufacturer: FOJAN; Manufacturer Part Number: FRQ0805J302 TS; Supplier: LCSC; Supplier Part Number: C7468420; Resistance: 3k; Tolerance: 5%; Power: 125mW
footprint RES SMD 0805
pins: 1, 2

## RES 0805 3MR 5%
designator C?, comment 3MR
3MR 5% 125mW 0805 Thick Film Resistor; Manufacturer: FOJAN; Manufacturer Part Number: FRC0805J305 TS; Voltage Rating: 150V; Supplier: LCSC; Supplier Part Number: C2907325; Resistance: 3MR; Tolerance: 5%; Power: 125mW
footprint RES SMD 0805
pins: 1, 2

## RES 0805 3R0 1%
designator C?, comment 3R0
3.09R 1% 125mW 0805 Thick Film Resistor; Manufacturer: FOJAN; Manufacturer Part Number: FRC0805F3R09TS; Voltage Rating: 150V; Supplier: LCSC; Supplier Part Number: C2933431; Resistance: 3R0; Tolerance: 1%; Power: 125mW
footprint RES SMD 0805
pins: 1, 2

## RES 0805 3R1 1%
designator C?, comment 3R1
3.16R 1% 125mW 0805 Thick Film Resistor; Manufacturer: FOJAN; Manufacturer Part Number: FRC0805F3R16TS; Voltage Rating: 150V; Supplier: LCSC; Supplier Part Number: C2933432; Resistance: 3R1; Tolerance: 1%; Power: 125mW
footprint RES SMD 0805
pins: 1, 2

## RES 0805 3R2 1%
designator C?, comment 3R2
3.24R 1% 125mW 0805 Thick Film Resistor; Manufacturer: FOJAN; Manufacturer Part Number: FRC0805F3R24TS; Voltage Rating: 150V; Supplier: LCSC; Supplier Part Number: C2960800; Resistance: 3R2; Tolerance: 1%; Power: 125mW
footprint RES SMD 0805
pins: 1, 2

## RES 0805 3R3 1%
designator C?, comment 3R3
3.3R 1% 125mW 0805 Thick Film Resistor; Manufacturer: FOJAN; Manufacturer Part Number: FRC0805F3R30TS; Voltage Rating: 150V; Supplier: LCSC; Supplier Part Number: C2907250; Resistance: 3R3; Tolerance: 1%; Power: 125mW
footprint RES SMD 0805
pins: 1, 2

## RES 0805 3R3 1%_1
designator C?, comment 3R3
3.3MR 1% 125mW 0805 Thick Film Resistor; Manufacturer: FOJAN; Manufacturer Part Number: FRC0805F3304TS; Voltage Rating: 150V; Supplier: LCSC; Supplier Part Number: C2933416; Resistance: 3R3; Tolerance: 1%; Power: 125mW
footprint RES SMD 0805
pins: 1, 2

## RES 0805 3R3 1%_2
designator C?, comment 3R3
3.32R 1% 125mW 0805 Thick Film Resistor; Manufacturer: FOJAN; Manufacturer Part Number: FRC0805F3R32TS; Voltage Rating: 150V; Supplier: LCSC; Supplier Part Number: C3013220; Resistance: 3R3; Tolerance: 1%; Power: 125mW
footprint RES SMD 0805
pins: 1, 2

## RES 0805 3R3 1%_3
designator C?, comment 3R3
3.32MR 125mW 150V Thick Film Resistor 1% 0805 Chip Resistor - Surface Mount RoHS; Manufacturer: FOJAN; Manufacturer Part Number: FRC0805F3324TS; Supplier: LCSC; Supplier Part Number: C52033562; Resistance: 3R3; Tolerance: 1%; Voltage Rating: 150V; Power: 125mW
footprint RES SMD 0805
pins: 1, 2

## RES 0805 3R3 5%
designator C?, comment 3R3
3.3MR 5% 125mW 0805 Thick Film Resistor; Manufacturer: FOJAN; Manufacturer Part Number: FRC0805J335 TS; Voltage Rating: 150V; Supplier: LCSC; Supplier Part Number: C2933543; Resistance: 3R3; Tolerance: 5%; Power: 125mW
footprint RES SMD 0805
pins: 1, 2

## RES 0805 3R4 1%
designator C?, comment 3R4
3.48R 1% 125mW 0805 Thick Film Resistor; Manufacturer: FOJAN; Manufacturer Part Number: FRC0805F3R48TS; Voltage Rating: 150V; Supplier: LCSC; Supplier Part Number: C2933433; Resistance: 3R4; Tolerance: 1%; Power: 125mW
footprint RES SMD 0805
pins: 1, 2

## RES 0805 3R5 1%
designator C?, comment 3R5
3.57MR 1% 125mW 0805 Thick Film Resistor; Manufacturer: FOJAN; Manufacturer Part Number: FRC0805F3574TS; Voltage Rating: 150V; Supplier: LCSC; Supplier Part Number: C3000526; Resistance: 3R5; Tolerance: 1%; Power: 125mW
footprint RES SMD 0805
pins: 1, 2

## RES 0805 3R6 1%
designator C?, comment 3R6
3.6R 1% 125mW 0805 Thick Film Resistor; Manufacturer: FOJAN; Manufacturer Part Number: FRC0805F3R60TS; Voltage Rating: 150V; Supplier: LCSC; Supplier Part Number: C2933434; Resistance: 3R6; Tolerance: 1%; Power: 125mW
footprint RES SMD 0805
pins: 1, 2

## RES 0805 3R6 1%_1
designator C?, comment 3R6
125mW 3.65R 150V Thick Film Resistor 1% 100ppm/â„ƒ 0805 Chip Resistor - Surface Mount RoHS; Manufacturer: FOJAN; Manufacturer Part Number: FRC0805F3R65TS; Supplier: LCSC; Supplier Part Number: C7467333; Resistance: 3R6; Tolerance: 1%; Voltage Rating: 150V; Power: 125mW
footprint RES SMD 0805
pins: 1, 2

## RES 0805 3R6 5%
designator C?, comment 3R6
3.6R 5% 125mW 0805 Thick Film Resistor; Manufacturer: FOJAN; Manufacturer Part Number: FRC0805J3R6 TS; Voltage Rating: 150V; Supplier: LCSC; Supplier Part Number: C2933551; Resistance: 3R6; Tolerance: 5%; Power: 125mW
footprint RES SMD 0805
pins: 1, 2

## RES 0805 3R8 1%
designator C?, comment 3R8
3.83R 1% 125mW 0805 Thick Film Resistor; Manufacturer: FOJAN; Manufacturer Part Number: FRC0805F3R83TS; Voltage Rating: 150V; Supplier: LCSC; Supplier Part Number: C5713306; Resistance: 3R8; Tolerance: 1%; Power: 125mW
footprint RES SMD 0805
pins: 1, 2

## RES 0805 3R9 1%
designator C?, comment 3R9
3.9R 1% 125mW 0805 Thick Film Resistor; Manufacturer: FOJAN; Manufacturer Part Number: FRC0805F3R90TS; Voltage Rating: 150V; Supplier: LCSC; Supplier Part Number: C2933436; Resistance: 3R9; Tolerance: 1%; Power: 125mW
footprint RES SMD 0805
pins: 1, 2

## RES 0805 3R9 1%_1
designator C?, comment 3R9
3.9MR 1% 125mW 0805 Thick Film Resistor; Manufacturer: FOJAN; Manufacturer Part Number: FRC0805F3904TS; Voltage Rating: 150V; Supplier: LCSC; Supplier Part Number: C2930398; Resistance: 3R9; Tolerance: 1%; Power: 125mW
footprint RES SMD 0805
pins: 1, 2

## RES 0805 3R9 1%_2
designator C?, comment 3R9
3.92R 1% 125mW 0805 Thick Film Resistor; Manufacturer: FOJAN; Manufacturer Part Number: FRC0805F3R92TS; Voltage Rating: 150V; Supplier: LCSC; Supplier Part Number: C2933437; Resistance: 3R9; Tolerance: 1%; Power: 125mW
footprint RES SMD 0805
pins: 1, 2

## RES 0805 3R9 5%
designator C?, comment 3R9
3.9R 5% 125mW 0805 Thick Film Resistor; Manufacturer: FOJAN; Manufacturer Part Number: FRC0805J3R9TS; Voltage Rating: 150V; Supplier: LCSC; Supplier Part Number: C2930269; Resistance: 3R9; Tolerance: 5%; Power: 125mW
footprint RES SMD 0805
pins: 1, 2

## RES 0805 3R 1%
designator C?, comment 3R
3R 1% 125mW 0805 Thick Film Resistor; Manufacturer: FOJAN; Manufacturer Part Number: FRC0805F3R00TS; Voltage Rating: 150V; Supplier: LCSC; Supplier Part Number: C2933430; Resistance: 3R; Tolerance: 1%; Power: 125mW
footprint RES SMD 0805
pins: 1, 2

## RES 0805 4k0 1%
designator C?, comment 4k0
4.02kR 1% 125mW 0805 Thick Film Resistor; Manufacturer: FOJAN; Manufacturer Part Number: FRC0805F4021TS; Voltage Rating: 150V; Supplier: LCSC; Supplier Part Number: C2930195; Resistance: 4k0; Tolerance: 1%; Power: 125mW
footprint RES SMD 0805
pins: 1, 2